# EAGLE library part CK102X06 (library SPCoast)
ROTARY SWITCH C&K
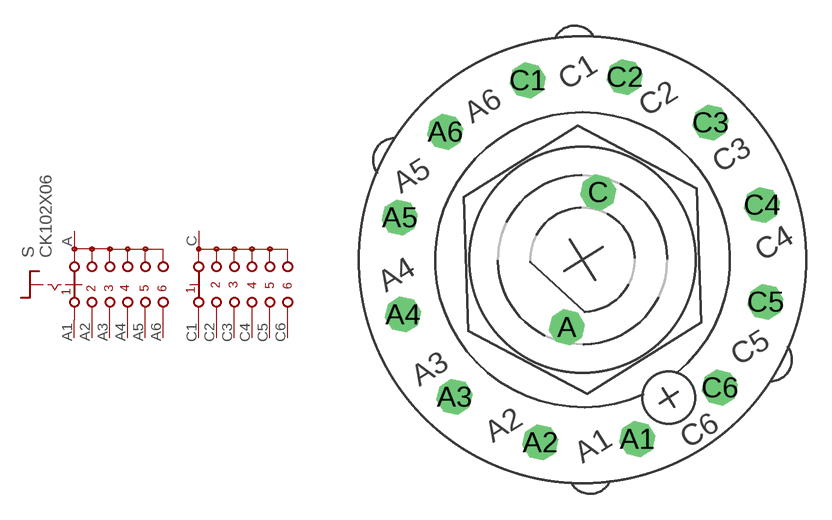
[diagram p83: symbol with the pads of CK102X06; footprint CK102X06]

Designator prefix S

## CK102X06  [CK102X06]
A  A  pas
A1  A1  pas
A2  A2  pas
A3  A3  pas
A4  A4  pas
A5  A5  pas
A6  A6  pas
C  C  pas
C1  C1  pas
C2  C2  pas
C3  C3  pas
C4  C4  pas
C5  C5  pas
C6  C6  pas

## Footprint CK102X06 (pad centres in mm)
ROTARY SWITCH C&K
drill 1.321 octagon: A -0.913,-3.955; A1 3.214,-10.511; A2 -2.473,-10.71; A3 -7.496,-8.039; A4 -10.511,-3.214; A5 -10.71,2.473; A6 -8.039,7.496; C 0.913,3.955; C1 -3.214,10.511; C2 2.473,10.71; C3 7.496,8.039; C4 10.511,3.214; C5 10.71,-2.473; C6 8.039,-7.496